# Altium footprint library CanSat1PcbLib.PcbLib: 17 footprints (part 1 of 2)
Each footprint in its own frame and in the unit in brackets; x right, y up, seen from the top. Pads: shape width x height; smd on the part's side, far side on the other; paste and mask are expansions set on the pad; w line width, h text height; cw(c..) or ccw(c..) is an arc to the next point about the centre after c.
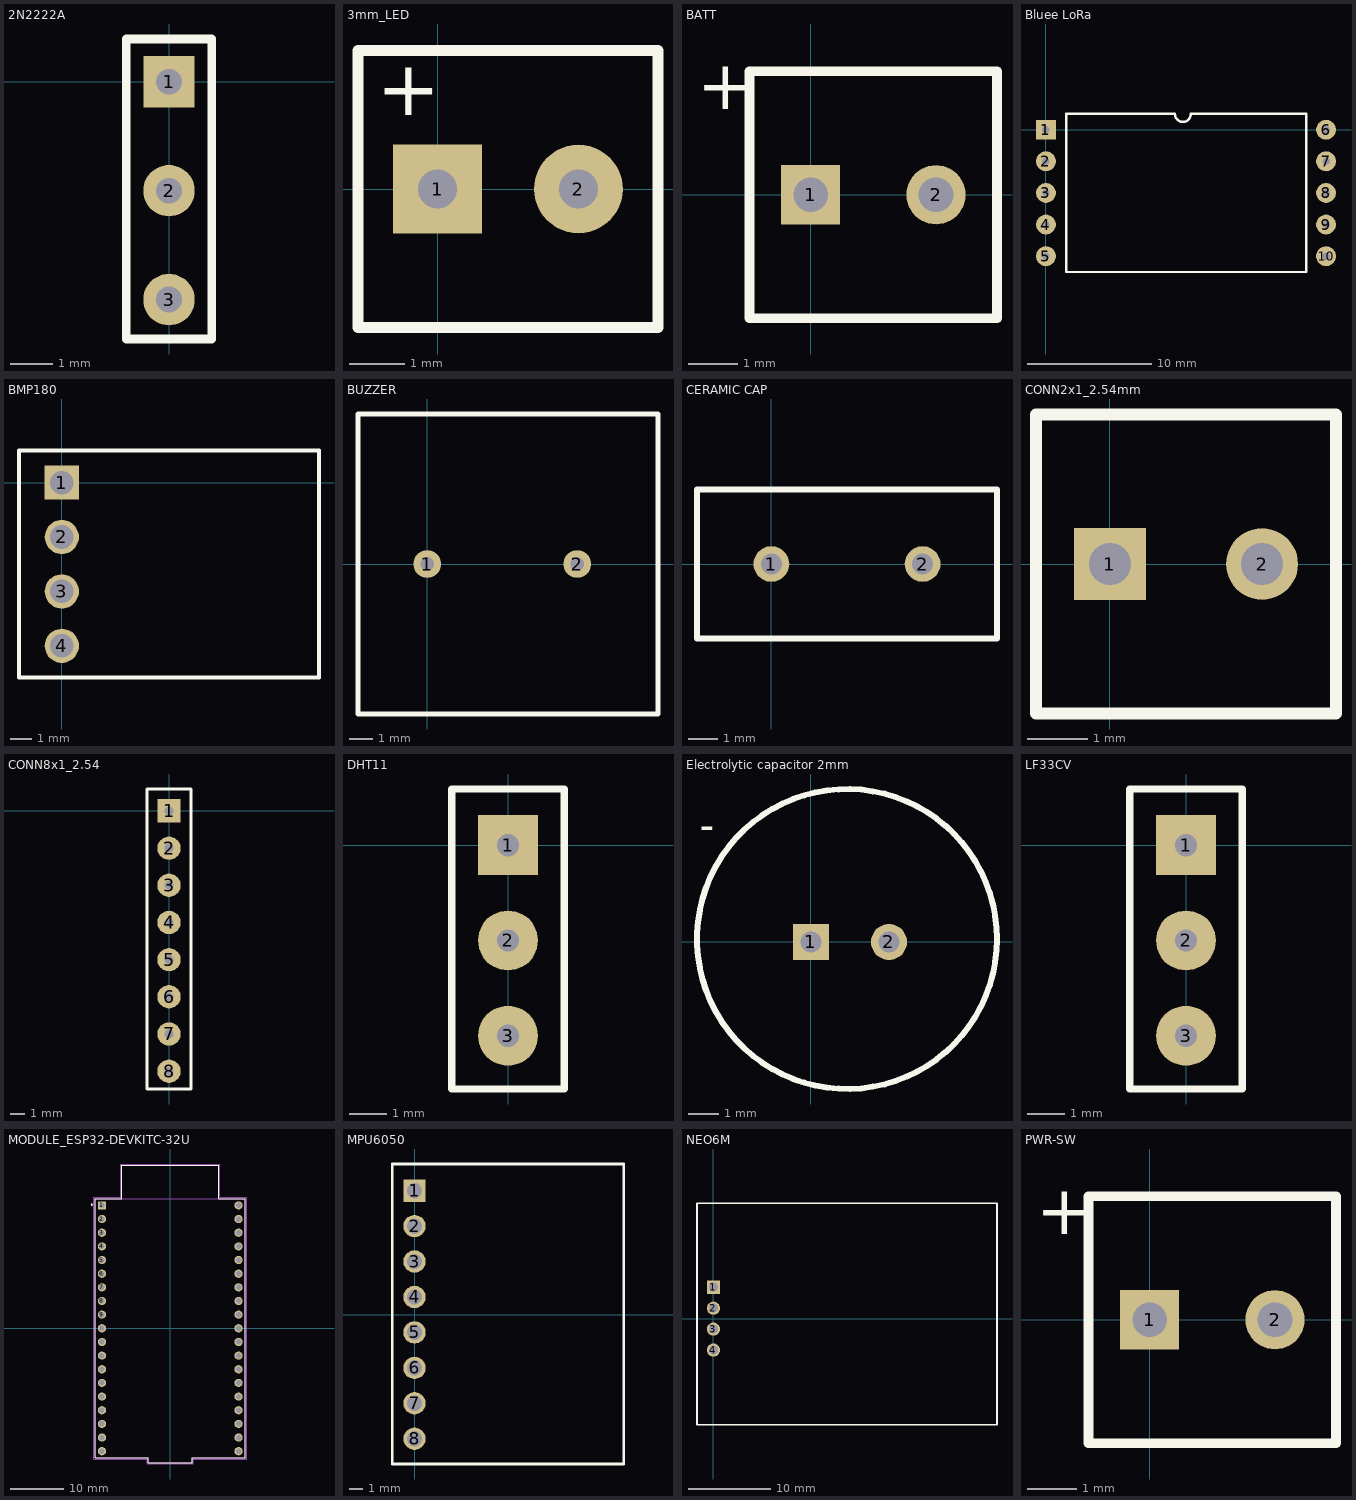
[diagram p0: the footprints below, top view; thin cyan lines are the x and y axes]

## 2N2222A [mm]
pads (3):
  rect 1.2x1.2 hole 0.6: 1(0,0)
  round 1.2 hole 0.6: 2(0,-2.54) 3(0,-5.08)
Top Overlay:
  lines w0.2: -1,-6 1,-6 1,1 -1,1 -1,-6
  text ".Designator" at 2.667,-5.9 h0.7
3D body "p210.stp": height 17.11, standoff 0.01, extent -1.3,-5.34 2.3,0.14

## 3mm_LED [mm]
pads (2):
  rect 1.6x1.6 hole 0.7: 1(0,0)
  round 1.6 hole 0.7: 2(2.54,0)
Top Overlay:
  lines w0.2: -1.435,-2.5 3.975,-2.5 3.975,0 3.975,2.5 -1.435,2.5 -1.435,-2.5
  text ".Designator" at -1.5,3.033 h1
  text "+" at -1.1,1.333 h1
3D body "LED 3mm BLEU.STEP": height 5.81, standoff -24.69, extent -0.3,-1.499 2.9,1.699

## BATT [mm]
pads (2):
  rect 1.2x1.2 hole 0.7: 1(0,0)
  round 1.2 hole 0.7: 2(2.54,0)
Top Overlay:
  lines w0.2: -1.235,-2.5 3.775,-2.5 3.775,0 3.775,2.5 -1.235,2.5 -1.235,-2.5
  text "+" at -2.3,1.733 h1
  text ".Designator" at -1.3,3.133 h1
3D body "CONN2x1_2.54.STEP": height 8.06, standoff -3.24, extent -1.28,-1.3 3.8,1.5

## Bluee LoRa [mm]
pads (10):
  rect 1.6x1.6 hole 0.6: 1(0,0)
  round 1.6 hole 0.6: 2(0,-2.54) 3(0,-5.08) 4(0,-7.62) 5(0,-10.16) 6(22.5,0) 7(22.5,-2.54) 8(22.5,-5.08) 9(22.5,-7.62) 10(22.5,-10.16)
Top Overlay:
  lines w0.2: 1.635,-11.43 1.635,1.27 10.365,1.27 ccw(c11,1.27) 11.635,1.27 20.9,1.27 20.9,-11.43 1.635,-11.43
  text ".Designator" at 1.7,2.133 h1

## BMP180 [mm]
pads (4):
  rect 1.6x1.6 hole 1.1: 1(0,0)
  round 1.6 hole 1.1: 2(0,-2.54) 3(0,-5.08) 4(0,-7.62)
Top Overlay:
  lines w0.2: -2,-9.1 -2,1.5 12,1.5 12,-8.9 12,-9.1 -2,-9.1
  text ".Designator" at 13.567,-9 h1
3D body "BMP180 Breakout.step": height 5.6, standoff -6.34, extent -1.4,-8.9 11.4,1.3

## BUZZER [mm]
pads (2):
  round 1.2 hole 0.6: 1(0,0) 2(6.5,0)
Top Overlay:
  lines w0.2: -3,-6.5 10,-6.5 10,6.5 -3,6.5 -3,-6.5
  text ".Designator" at -3.1,6.933 h1
3D body "CUI_DEVICES_CEM-1206S.step": height 8.76, standoff -6.24, extent -2.7,-6.1 9.289,5.9

## CERAMIC CAP [mm]
pads (2):
  round 1.2 hole 0.7: 1(0,0) 2(5.08,0)
Top Overlay:
  lines w0.2: -2.5,-2.5 -2.5,2.5 0,2.5 5.08,2.5 7.58,2.5 7.58,-2.5 5.08,-2.5 0,-2.5 -2.5,-2.5
  text ".Designator" at -2.6,3.233 h1
3D body "C322C104M5U5TA.step": height 13.63, standoff 0.01, extent -0.22,-1.585 5.42,1.6

## CONN2x1_2.54mm [mm]
pads (2):
  rect 1.2x1.2 hole 0.7: 1(0,0)
  round 1.2 hole 0.7: 2(2.54,0)
Top Overlay:
  lines w0.2: -1.235,-2.5 3.775,-2.5 3.775,0 3.775,2.5 -1.235,2.5 -1.235,-2.5
  text ".Designator" at -1.3,3.133 h1
3D body "CONN2x1_2.54.STEP": height 8.06, standoff -3.24, extent -1.28,-1.3 3.8,1.5

## CONN8x1_2.54 [mm]
pads (8):
  rect 1.6x1.6 hole 0.6: 1(0,0)
  round 1.6 hole 0.6: 2(0,-2.54) 3(0,-5.08) 4(0,-7.62) 5(0,-10.16) 6(0,-12.7) 7(0,-15.24) 8(0,-17.78)
Top Overlay:
  lines w0.2: -1.5,-19 1.5,-19 1.5,1.5 -1.5,1.5 -1.5,-19
  text ".Designator" at 2.333,1.2 h1
3D body "CONN8x1_2.54.STEP": height 8.2, standoff -2.6, extent -1.2,-18.96 1.2,1.36

## DHT11 [mm]
pads (3):
  rect 1.6x1.6 hole 0.6: 1(0,0)
  round 1.6 hole 0.6: 2(0,-2.54) 3(0,-5.08)
Top Overlay:
  lines w0.2: -1.5,-6.5 1.5,-6.5 1.5,1.5 -1.5,1.5 -1.5,-6.5
3D body "DHT11.step": height 21.36, standoff -6.33, extent -7.3,-10.4 1.2,5.6

## Electrolytic capacitor 2mm [mm]
pads (2):
  rect 1.2x1.2 hole 0.7: 1(0,0)
  round 1.2 hole 0.7: 2(2.6,0)
Top Overlay:
  circle w0.2: c1.2,0.1 r5
  text "-" at -3.7,3.4 h1
  text ".Designator" at -3.9,5.633 h1
3D body "ESK107M025AE3EA.step": height 12.52, standoff -19.99, extent -2.171,-3.3 4.6,3.5

## LF33CV [mm]
pads (3):
  rect 1.6x1.6 hole 0.6: 1(0,0)
  round 1.6 hole 0.6: 2(0,-2.54) 3(0,-5.08)
Top Overlay:
  lines w0.2: -1.5,-6.5 -1.5,1.5 1.5,1.5 1.5,-6.5 -1.5,-6.5
  text ".Designator" at 2.133,1.5 h1
3D body "LF33CV.STEP": height 22.24, standoff -8.34, extent -2.7,-7.65 1.872,2.65

## MODULE_ESP32-DEVKITC-32U [mm]
pads (38):
  rect 1.53x1.53 / inner round 1.53 / far side rect 1.53x1.53 hole 1.02 mask+0.05: 1(-12.7,22.85)
  round 1.53 hole 1.02 mask+0.05: 2(-12.7,20.31) 3(-12.7,17.77) 4(-12.7,15.23) 5(-12.7,12.69) 6(-12.7,10.15) 7(-12.7,7.61) 8(-12.7,5.07) 9(-12.7,2.53) 10(-12.7,-0.01) 11(-12.7,-2.55) 12(-12.7,-5.09) 13(-12.7,-7.63) 14(-12.7,-10.17) 15(-12.7,-12.71) 16(-12.7,-15.25) 17(-12.7,-17.79) 18(-12.7,-20.33) 19(-12.7,-22.87) 20(12.7,-22.87) 21(12.7,-20.33) 22(12.7,-17.79) 23(12.7,-15.25) 24(12.7,-12.71) 25(12.7,-10.17) 26(12.7,-7.63) 27(12.7,-5.09) 28(12.7,-2.55) 29(12.7,-0.01) 30(12.7,2.53) 31(12.7,5.07) 32(12.7,7.61) 33(12.7,10.15) 34(12.7,12.69) 35(12.7,15.23) 36(12.7,17.77) 37(12.7,20.31) 38(12.7,22.85)
Top Overlay:
  circle w0.2: c-14.57,22.97 r0.1
  lines w0.127: -13.95,-24.1 -13.95,24.1 -9,24.1 -9,30.3 9,30.3 9,24.1 13.95,24.1 13.95,-24.1 4.06,-24.1 4.06,-25 -4.07,-25 -4.07,-24.1 -13.95,-24.1
Mechanical 13:
  circle w0.2: c-14.57,22.97 r0.1
  lines w0.127: -9,24.1 9,24.1 ; -9,24.1 -13.95,24.1 -13.95,-24.1 -4.07,-24.1 -4.07,-25 4.06,-25 4.06,-24.1 13.95,-24.1 13.95,24.1 9,24.1 ; -9,24.1 -9,30.3 9,30.3 9,24.1
Mechanical 15:
  lines w0.05: -14.2,-24.38 -14.2,24.38 -9.25,24.38 -9.25,30.55 9.25,30.55 9.25,24.38 14.2,24.38 14.2,-24.38 4.31,-24.38 4.31,-25.25 -4.32,-25.25 -4.32,-24.38 -14.2,-24.38
3D body "step_temp.STEP": height 7.95, standoff -5.5, extent -13.95,-24.62 13.95,30.3

## MPU6050 [mm] "6DOF IMU"
pads (8):
  rect 1.6x1.6 hole 1.1: 1(0,8.89)
  round 1.6 hole 1.1: 2(0,6.35) 3(0,3.81) 4(0,1.27) 5(0,-1.27) 6(0,-3.81) 7(0,-6.35) 8(0,-8.89)
Top Overlay:
  lines w0.2: -1.6,-10.7 15,-10.7 15,10.8 -1.6,10.8 -1.6,-10.6
  text ".Designator" at -2.133,-10.1 h1
3D body "MPU6050.stp": height 6.11, standoff -5.07, extent -1.275,-10.554 14.6,10.554

## NEO6M [mm]
pads (4):
  rect 1.6x1.6 hole 1.1: 1(0,3.81)
  round 1.6 hole 1.1: 2(0,1.27) 3(0,-1.27) 4(0,-3.81)
Top Overlay:
  lines w0.2: -2,-12.89 34.4,-12.89 34.4,14.01 -2,14.01 -2,-12.89
  text ".Designator" at 37.2,-6.49 h1.5
3D body "NEO-6M.x_t": height 9.98, standoff -1.96, extent -1.76,-12.66 33.8,13.68

## PWR-SW [mm] "Mechanical power switch"
pads (2):
  rect 1.2x1.2 hole 0.7: 1(0,0)
  round 1.2 hole 0.7: 2(2.54,0)
Top Overlay:
  lines w0.2: -1.235,-2.5 -1.235,2.5 3.775,2.5 3.775,0 3.775,-2.5 -1.235,-2.5
  text ".Designator" at -1.3,3.133 h1
  text "+" at -2.3,1.733 h1
3D body "CONN2x1_2.54.STEP": height 8.06, standoff -3.24, extent -1.28,-1.3 3.8,1.5